# EAGLE library part 1PS66SB17 (library nxp_60)
4 V, 30 mA low Cd Schottky barrier diode Planar low capacitance Schottky barrier diode encapsulated in a very small SMD plastic package. AAL Eindhoven MK
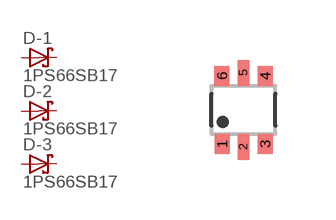
[diagram p102: symbol with the pads of SOT666; footprint SOT666]

Designator prefix D; gates -1=DIODE_SCHOTTKY -2=DIODE_SCHOTTKY -3=DIODE_SCHOTTKY

## 1PS66SB17  [SOT666]
1  -1:A  pas
2  -2:A  pas
3  -3:A  pas
4  -3:K  pas
5  -2:K  pas
6  -1:K  pas

## Footprint SOT666 (pad centres in mm)
SOT 666 Reflow soldering foorprint Source: Philips - BAS70_1PS7XSB70_SER_8.pdf
smd 0.375 x 0.5: 1 -0.537,-0.85; 3 0.538,-0.85; 4 0.538,0.85; 6 -0.538,0.85
smd 0.3 x 0.65: 2 0,-0.925; 5 0,0.925